# EAGLE library part AK-550 (library SolarJackets)
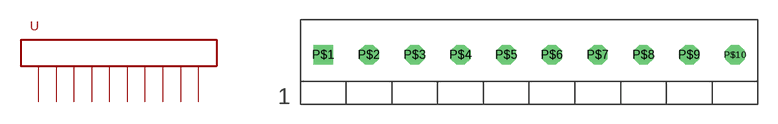
[diagram p1: symbol with the pads of AK-550; footprint AK-550]

Designator prefix -

## AK-550  [AK-550]
P$1  P$1
P$2  P$2
P$3  P$3
P$4  P$4
P$5  P$5
P$6  P$6
P$7  P$7
P$8  P$8
P$9  P$9
P$10  P$10

## Footprint AK-550 (pad centres in mm)
drill 1 square: P$1 1.75,3.8
drill 1 octagon: P$2 5.25,3.8; P$3 8.75,3.8; P$4 12.25,3.8; P$5 15.75,3.8; P$6 19.25,3.8; P$7 22.75,3.8; P$8 26.25,3.8; P$9 29.75,3.8; P$10 33.25,3.8